# EAGLE library part RESISTOR-NETWORK-X8 (library deiring-components)
Resistor Network Array 4
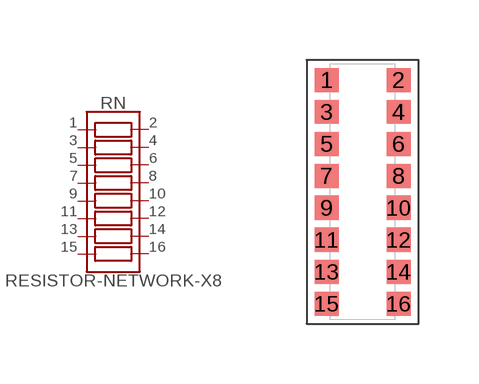
[diagram p29: symbol with the pads of I0603-M1608-RN-X8; footprint I0603-M1608-RN-X8]

Designator prefix RN

## RESISTOR-NETWORK-X8-I0603-M1608-RN-X8 (LCSC: C1732037; MF: CTS Electronic Components; MPN: 742C163221JP; VALUE: 8x220)  [I0603-M1608-RN-X8]
1  1  pas
2  2  pas
3  3  pas
4  4  pas
5  5  pas
6  6  pas
7  7  pas
8  8  pas
9  9  pas
10  10  pas
11  11  pas
12  12  pas
13  13  pas
14  14  pas
15  15  pas
16  16  pas

## Footprint I0603-M1608-RN-X8 (pad centres in mm)
smd 0.6 x 0.6: 1 -0.9,2.8; 2 0.9,2.8; 3 -0.9,2; 4 0.9,2; 5 -0.9,1.2; 6 0.9,1.2; 7 -0.9,0.4; 8 0.9,0.4; 9 -0.9,-0.4; 10 0.9,-0.4; 11 -0.9,-1.2; 12 0.9,-1.2; 13 -0.9,-2; 14 0.9,-2; 15 -0.9,-2.8; 16 0.9,-2.8